# Altium footprint library TVS_TBU-CAxxx-XXX-WH_M.pcblib: 1 footprints
Each footprint in its own frame and in the unit in brackets; x right, y up, seen from the top. Pads: shape width x height; smd on the part's side, far side on the other; paste and mask are expansions set on the pad; w line width, h text height; cw(c..) or ccw(c..) is an arc to the next point about the centre after c.
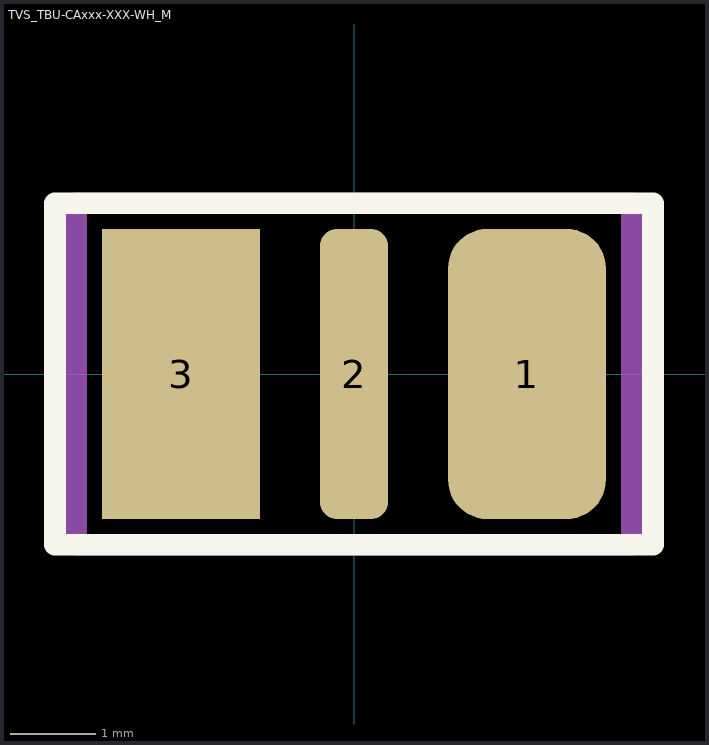
[diagram p0: the footprint, top view; thin cyan lines are the x and y axes]

## TVS_TBU-CAxxx-XXX-WH_M [mm]
pads (3):
  rrect50% 1.85x3.4 smd: 1(2.025,0)
  rrect50% 0.8x3.4 smd: 2(0,0)
  rect 1.85x3.4 smd: 3(-2.025,0)
Top Overlay:
  lines w0.254: -3.5,-2 3.5,-2 3.5,2 -3.5,2 -3.5,-2
Mechanical 13:
  lines w0.254: -3.25,-2 3.25,-2 3.25,2 -3.25,2 -3.25,-2
Mechanical 15:
  lines w0.254: -0.25,0 0.25,0 ; 0,-0.25 0,0.25 ; -3.25,-2 3.25,-2 3.25,2 -3.25,2 -3.25,-2
Mechanical 17:
  text "'.Designator'" at -3.55,-0.2 h0.64
Mechanical 19:
  text "'.Comment'" at -2.25,0 h0.64
3D body "User Library-Part+Studio+1.STEP": height 1, standoff -0.05, extent -3.25,-1.9 3.25,2.1